# Altium schematic symbol library 560020-0530.SchLib: 1 symbol
Pins are listed as number, name and electrical type; pins without a type are passive.

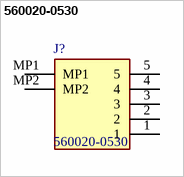
[diagram p0: symbol 560020-0530]

## 560020-0530
designator J?
Headers & Wire Housings 2.0 W/B SMT STAu5ckt EMBOSSED TP PKG; Manufacturer_Name: Molex; Geometry.Height: 9.3mm; Manufacturer_Part_Number: 560020-0530; Mouser Part Number: 538-560020-0530; Mouser Price/Stock: https://www.mouser.co.uk/ProductDetail/Molex/560020-0530?qs=c8NFF48pVsAr8lC1%252BZ%252Bm4w%3D%3D; Arrow Part Number: *; Arrow Price/Stock: *; Datasheet Link: https://www.molex.com/pdm_docs/sd/5600200530_sd.pdf
footprint 5600200530
pins: 1, 2, 3, 4, 5, MP1, MP2